# EAGLE library part RV-3028-C7 (library U-Micro-Crystal-RV-3028-RTC)
Extreme Low Power RTC Module Source: Datasheet <http://www.microcrystal.com/images/_Product-Documentation/02_Oscillator_&_RTC_Modules/01_Datasheet/RV-3028-C7.pdf>
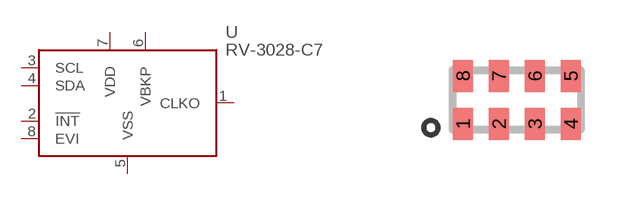
[diagram p0: symbol with the pads of RV3028C732768KHZ1PPMTAQC; footprint RV3028C732768KHZ1PPMTAQC]

Designator prefix U

## RV-3028-C7 (DESCRIPTION: Extreme Low Power RTC Module; HEIGHT: 0.8mm; MANUFACTURER_NAME: Micro Crystal AG; MANUFACTURER_PART_NUMBER: RV-3028-C7)  [RV3028C732768KHZ1PPMTAQC]
1  CLKO
2  !INT
3  SCL
4  SDA
5  VSS
6  VBKP
7  VDD
8  EVI

## Footprint RV3028C732768KHZ1PPMTAQC (pad centres in mm)
RV-3028-C7
smd 0.5 x 0.8: 1 -1.35,-0.6; 2 -0.45,-0.6; 3 0.45,-0.6; 4 1.35,-0.6; 5 1.35,0.6; 6 0.45,0.6; 7 -0.45,0.6; 8 -1.35,0.6